# EAGLE library part NL27WZ14 (library kwoo)
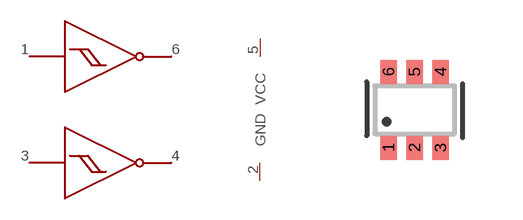
[diagram p33: symbol with the pads of SOT363; footprint SOT363]

Designator prefix U; gates G$1=SCHMITT_TRIGGER G$2=SCHMITT_TRIGGER G$3=SUPPLY

## NL27WZ14  [SOT363]
1  G$1:X
2  G$3:GND
3  G$2:X
4  G$2:Y
5  G$3:VCC
6  G$1:Y

## Footprint SOT363 (pad centres in mm)
smd 0.42 x 0.6: 1 -0.65,-0.95; 2 0,-0.95; 3 0.65,-0.95; 4 0.65,0.95; 5 0,0.95; 6 -0.65,0.95